# Altium footprint library 存储芯片.PcbLib: 6 footprints
Each footprint in its own frame and in the unit in brackets; x right, y up, seen from the top. Pads: shape width x height; smd on the part's side, far side on the other; paste and mask are expansions set on the pad; w line width, h text height; cw(c..) or ccw(c..) is an arc to the next point about the centre after c.
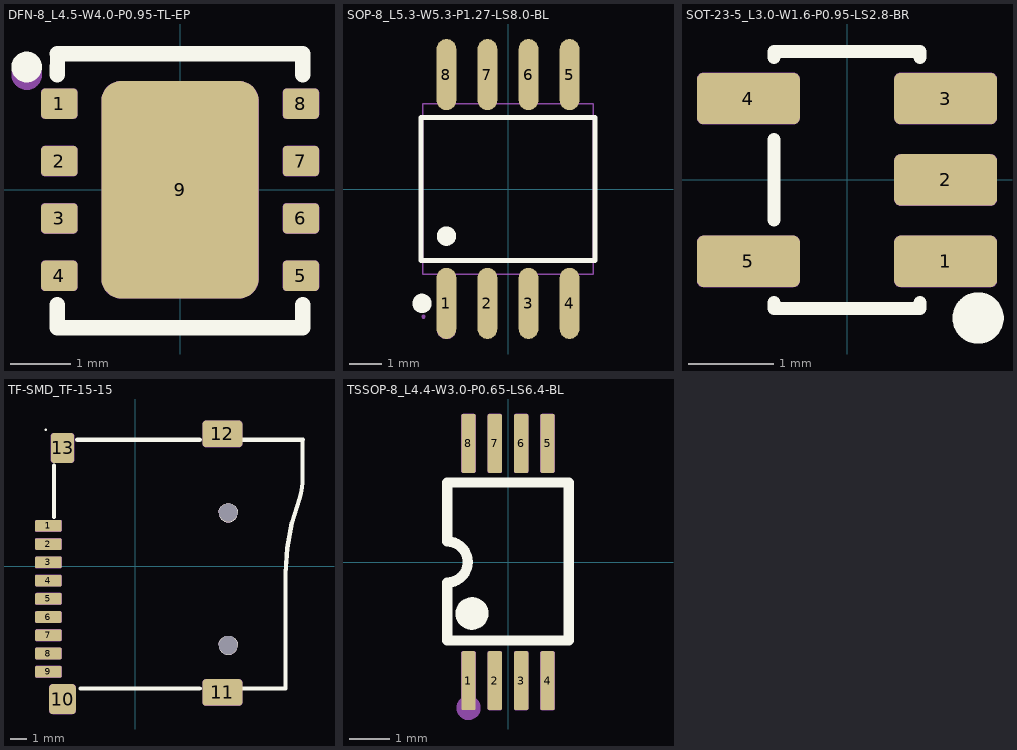
[diagram p0: the footprints below, top view; thin cyan lines are the x and y axes]

## DFN-8_L4.5-W4.0-P0.95-TL-EP [mm] "DFN-8(4.5x4); TDFN-8(4x4.5); WDFN-8-EP; -"
height -909.212
pads (9):
  rrect25% 0.6x0.5 smd mask+0.05: 1(-2,1.425) 2(-2,0.475) 3(-2,-0.475) 4(-2,-1.425) 5(2,-1.425) 6(2,-0.475) 7(2,0.475) 8(2,1.425)
  rrect25% 2.6x3.6 smd mask+0.05: 9(0,0)
Top Overlay:
  circle w0.254: c-2.54,2.032 r0.127
  region: -1.94,2.25 -1.941,2.262 -1.945,2.273 -1.95,2.283 -1.958,2.292 -1.967,2.3 -1.977,2.305 -1.988,2.309 -2,2.31 -2.012,2.309 -2.023,2.305 -2.033,2.3 -2.042,2.292 -2.05,2.283 -2.055,2.273 -2.059,2.262 -2.06,2.25 -2.059,2.238 -2.055,2.227 -2.05,2.217 -2.042,2.208 -2.033,2.2 -2.023,2.195 -2.012,2.191 -2,2.19 -1.988,2.191 -1.977,2.195 -1.967,2.2 -1.958,2.208 -1.95,2.217 -1.945,2.227 -1.941,2.238
  lines w0.254: -2.032,-1.906 -2.032,-2.286 2.032,-2.286 2.032,-1.906 ; -2.032,1.906 -2.03,2.25 ; -2.032,2.249 2.032,2.249 2.032,1.906
Mechanical 2:
  circle w0.254: c-2.54,1.905 r0.127
Mechanical 9:
  drawing of 9 lines, arcs and shapes, not listed
3D body "DFN-8_L4.5-W4.0-P0.95-TL-EP.step": height 1, standoff 0, extent -2,-2.25 2,2.25

## PCBComponent_1 [mm]

## SOP-8_L5.3-W5.3-P1.27-LS8.0-BL [mm]
pads (8):
  oval 0.609x2.204 smd: 1(-1.905,-3.542) 2(-0.635,-3.542) 3(0.635,-3.542) 4(1.905,-3.542) 5(1.905,3.542) 6(0.635,3.542) 7(-0.635,3.542) 8(-1.905,3.542)
Top Overlay:
  circle w0.3: c-2.662,-3.542 r0.15
  circle w0.3: c-1.905,-1.459 r0.15
  lines w0.152: -2.691,-2.211 2.691,-2.211 2.691,2.211 -2.691,2.211 -2.691,-2.211
Mechanical 6:
  circle w0.3: c-1.905,-4.35 r0.15
Mechanical 15:
  region: 1.687,3.31 1.687,2.63 2.123,2.63 2.123,3.31
  region: 1.687,3.95 1.687,3.3 2.123,3.3 2.123,3.95
  region: 0.417,3.31 0.417,2.63 0.853,2.63 0.853,3.31
  region: 0.417,3.95 0.417,3.3 0.853,3.3 0.853,3.95
  region: -0.853,3.31 -0.853,2.63 -0.417,2.63 -0.417,3.31
  region: -0.853,3.95 -0.853,3.3 -0.417,3.3 -0.417,3.95
  region: -2.123,3.31 -2.123,2.63 -1.687,2.63 -1.687,3.31
  region: -2.123,3.95 -2.123,3.3 -1.687,3.3 -1.687,3.95
  region: 1.687,-3.31 1.687,-2.63 2.123,-2.63 2.123,-3.31
  region: 1.687,-3.95 1.687,-3.3 2.123,-3.3 2.123,-3.95
  region: 0.417,-3.31 0.417,-2.63 0.853,-2.63 0.853,-3.31
  region: 0.417,-3.95 0.417,-3.3 0.853,-3.3 0.853,-3.95
  region: -0.853,-3.31 -0.853,-2.63 -0.417,-2.63 -0.417,-3.31
  region: -0.853,-3.95 -0.853,-3.3 -0.417,-3.3 -0.417,-3.95
  region: -2.123,-3.31 -2.123,-2.63 -1.687,-2.63 -1.687,-3.31
  region: -2.123,-3.95 -2.123,-3.3 -1.687,-3.3 -1.687,-3.95
  region: -2.555,-3.95 -2.555,-3.925 -2.59,-3.89 -2.64,-3.89 -2.675,-3.925 -2.675,-3.95 -2.675,-3.975 -2.64,-4.01 -2.59,-4.01 -2.555,-3.975 -2.555,-3.95
  lines w0.051: -2.64,-2.64 2.64,-2.64 2.64,2.64 -2.64,2.64 -2.64,-2.64

## SOT-23-5_L3.0-W1.6-P0.95-LS2.8-BR [mm] "SOT-23-5; SOT-23A-5; -; TSOT-23-5; SC-74A,SOT-753; SC-74A(SOT-753); SOT-25-5; SOT-23-5L; SOT-23-Thin-5; SOT-23-5-THIN; SOT-25; SOT23-5; SOT-23-THIN; SOIC-8; SOT-23-5(MTP5)"
height 5090.776
pads (5):
  rrect25% 1.2x0.6 smd mask+0.05: 1(1.15,-0.95) 2(1.15,0) 3(1.15,0.95) 4(-1.15,0.95) 5(-1.15,-0.95)
Top Overlay:
  circle w0.3: c1.529,-1.611 r0.15
  region: 1.46,-1.45 1.459,-1.438 1.455,-1.427 1.45,-1.417 1.442,-1.408 1.433,-1.4 1.423,-1.395 1.412,-1.391 1.4,-1.39 1.388,-1.391 1.377,-1.395 1.367,-1.4 1.358,-1.408 1.35,-1.417 1.345,-1.427 1.341,-1.438 1.34,-1.45 1.341,-1.462 1.345,-1.473 1.35,-1.483 1.358,-1.492 1.367,-1.5 1.377,-1.505 1.388,-1.509 1.4,-1.51 1.412,-1.509 1.423,-1.505 1.433,-1.5 1.442,-1.492 1.45,-1.483 1.455,-1.473 1.459,-1.462
  lines w0.152: -0.85,-1.43 -0.85,-1.5 0.85,-1.5 0.85,-1.43 ; -0.85,-0.47 -0.85,0.47 ; -0.85,1.43 -0.85,1.5 0.85,1.5 0.85,1.43
Mechanical 2:
  circle w0.3: c1.15,-0.95 r0.15
Mechanical 9:
  drawing of 5 lines, arcs and shapes, not listed
3D body "SOT-23-5_L3.0-W1.6-P0.95-LS2.8-BR.step": height 1.6, standoff 0, extent -0.8,-1.45 0.8,1.45

## TF-SMD_TF-15-15 [mil] "SMD; TFCARD; SIM-SMD"
height -35795.73
pads (15):
  rrect25% 63x27.6 smd mask+1.97: 1(-206.75,96.45) 2(-206.75,53.15) 3(-206.75,9.84) 4(-206.75,-33.47) 5(-206.75,-76.77) 6(-206.75,-120.08) 7(-206.75,-163.39) 8(-206.75,-206.7) 9(-206.75,-250)
  rrect25% 63x70.87 smd mask+1.97: 10(-173.17,-314.96)
  rrect25% 94.49x62.99 smd mask+1.97: 11(206.75,-299.22) 12(206.75,314.96)
  rrect25% 55.1x70.9 smd mask+1.97: 13(-173.15,281.51)
  round 43.31 hole 43.31 unplated: ""(220.53,-187.01) ""(220.53,127.95)
Top Overlay:
  region: -210.28,324.78 -210.32,325.24 -210.46,325.68 -210.68,326.09 -210.97,326.45 -211.33,326.74 -211.74,326.96 -212.18,327.1 -212.64,327.14 -213.1,327.1 -213.54,326.96 -213.95,326.74 -214.31,326.45 -214.6,326.09 -214.82,325.68 -214.96,325.24 -215,324.78 -214.96,324.32 -214.82,323.88 -214.6,323.47 -214.31,323.11 -213.95,322.82 -213.54,322.6 -213.1,322.46 -212.64,322.42 -212.18,322.46 -211.74,322.6 -211.33,322.82 -210.97,323.11 -210.68,323.47 -210.46,323.88 -210.32,324.32
  lines w1.97: 198.88,-187.01 199.29,-182.79 200.52,-178.72 202.53,-174.98 205.22,-171.7 208.5,-169.01 212.24,-167 216.31,-165.77 220.53,-165.36 224.75,-165.77 228.82,-167 232.56,-169.01 235.84,-171.7 238.53,-174.98 240.54,-178.72 241.77,-182.79 242.18,-187.01 241.77,-191.23 240.54,-195.3 238.53,-199.04 235.84,-202.32 232.56,-205.01 228.82,-207.02 224.75,-208.25 220.53,-208.66 216.31,-208.25 212.24,-207.02 208.5,-205.01 205.22,-202.32 202.53,-199.04 200.52,-195.3 199.29,-191.23 198.88,-187.01 ; 198.88,127.95 199.29,132.17 200.52,136.24 202.53,139.98 205.22,143.26 208.5,145.95 212.24,147.96 216.31,149.19 220.53,149.6 224.75,149.19 228.82,147.96 232.56,145.95 235.84,143.26 238.53,139.98 240.54,136.24 241.77,132.17 242.18,127.95 241.77,123.73 240.54,119.66 238.53,115.92 235.84,112.64 232.56,109.95 228.82,107.94 224.75,106.71 220.53,106.3 216.31,106.71 212.24,107.94 208.5,109.95 205.22,112.64 202.53,115.92 200.52,119.66 199.29,123.73 198.88,127.95
  lines w10: -193.15,117.87 -193.15,239.87 ; -138.15,300.87 152.85,300.87 ; -130.15,-290.13 152.85,-290.13 ; 255.85,-290.13 356.85,-290.13 356.85,-17.13 ; 255.85,300.87 397.85,300.87 ; 356.85,-16.66 360.52,43.85 371.49,103.48 389.6,161.34 393.61,174.13 396.03,187.32 396.85,200.7 ; 396.85,200.87 396.85,299.87
Mechanical 1:
  lines w1.97: 198.88,-187.01 199.29,-182.79 200.52,-178.72 202.53,-174.98 205.22,-171.7 208.5,-169.01 212.24,-167 216.31,-165.77 220.53,-165.36 224.75,-165.77 228.82,-167 232.56,-169.01 235.84,-171.7 238.53,-174.98 240.54,-178.72 241.77,-182.79 242.18,-187.01 241.77,-191.23 240.54,-195.3 238.53,-199.04 235.84,-202.32 232.56,-205.01 228.82,-207.02 224.75,-208.25 220.53,-208.66 216.31,-208.25 212.24,-207.02 208.5,-205.01 205.22,-202.32 202.53,-199.04 200.52,-195.3 199.29,-191.23 198.88,-187.01 ; 198.88,127.95 199.29,132.17 200.52,136.24 202.53,139.98 205.22,143.26 208.5,145.95 212.24,147.96 216.31,149.19 220.53,149.6 224.75,149.19 228.82,147.96 232.56,145.95 235.84,143.26 238.53,139.98 240.54,136.24 241.77,132.17 242.18,127.95 241.77,123.73 240.54,119.66 238.53,115.92 235.84,112.64 232.56,109.95 228.82,107.94 224.75,106.71 220.53,106.3 216.31,106.71 212.24,107.94 208.5,109.95 205.22,112.64 202.53,115.92 200.52,119.66 199.29,123.73 198.88,127.95
Mechanical 2:
  circle w17.72: c220.53,127.95 r8.86
  circle w17.72: c220.53,-187.01 r8.86
Mechanical 9:
  drawing of 13 lines, arcs and shapes, not listed
3D body "TF-SMD_TF-15-15.step": height 39.37, standoff 0, extent -190.98,-279.51 379.88,301.19

## TSSOP-8_L4.4-W3.0-P0.65-LS6.4-BL [mm] "-; TSSOP-8; TSSOP-8-3.0mm; SSOP-8-4.4mm; TSSOP-8-4.4mm; TSSOP-8-3.5mm; TSSOP-8-3mm; SOT-23-5; SC-70-5; SSOP-8-B; TSSOP-8(3x4.4x0.65); VSSOP-8-3mm; TSSOP-8L; DIP-8; SMD; TSSOP; TSSOP-8(3x4.4x0.65mm); TSSOP-8_3x4.4x065P; SSOP-8_L4.4-W3.0-P0.65-LS6.4; TSSOP(PW); TSSOP-8_L4.4-W3.0-P0.65-LS6.4-BL; TSSOP-8_L4.4-W3.0-P0.65-LS6.4; SSOP-8; TSSOP8; TSSOP8L; TSSop-8; TSSOP-8-BJ; TSSOP-8-B; PSOP-8; TSSOP-14; TSSOP-8_4.4x3mm_P0.65mm; TSSOP8_-173mil; SOP-8; MSOP-8; SOIC-8"
height 5090.776
pads (8):
  rrect25% 0.353x1.454 smd mask+0.05: 1(-0.975,-2.927) 2(-0.325,-2.927) 3(0.325,-2.927) 4(0.975,-2.927) 5(0.975,2.927) 6(0.325,2.927) 7(-0.325,2.927) 8(-0.975,2.927)
Top Overlay:
  region: -0.829,-1.27 -0.83,-1.258 -0.834,-1.247 -0.839,-1.237 -0.847,-1.228 -0.856,-1.22 -0.866,-1.215 -0.877,-1.211 -0.889,-1.21 -0.901,-1.211 -0.912,-1.215 -0.922,-1.22 -0.931,-1.228 -0.939,-1.237 -0.944,-1.247 -0.948,-1.258 -0.949,-1.27 -0.948,-1.282 -0.944,-1.293 -0.939,-1.303 -0.931,-1.312 -0.922,-1.32 -0.912,-1.325 -0.901,-1.329 -0.889,-1.33 -0.877,-1.329 -0.866,-1.325 -0.856,-1.32 -0.847,-1.312 -0.839,-1.303 -0.834,-1.293 -0.83,-1.282
  region: -1.293,-1.27 -1.287,-1.203 -1.27,-1.138 -1.242,-1.077 -1.205,-1.021 -1.159,-0.973 -1.106,-0.932 -1.046,-0.901 -0.982,-0.88 -0.916,-0.87 -0.849,-0.871 -0.783,-0.883 -0.72,-0.906 -0.662,-0.939 -0.61,-0.981 -0.565,-1.032 -0.53,-1.089 -0.504,-1.151 -0.489,-1.216 -0.485,-1.27 -0.491,-1.337 -0.508,-1.402 -0.536,-1.463 -0.573,-1.519 -0.619,-1.567 -0.672,-1.608 -0.732,-1.639 -0.796,-1.66 -0.862,-1.67 -0.929,-1.669 -0.995,-1.657 -1.058,-1.634 -1.116,-1.601 -1.168,-1.559 -1.213,-1.508 -1.248,-1.451 -1.274,-1.389 -1.289,-1.324
  lines w0.254: -1.501,1.966 -1.501,0.508 -1.413,0.5 -1.327,0.478 -1.247,0.44 -1.174,0.39 -1.112,0.327 -1.061,0.254 -1.023,0.174 -1,0.089 -0.993,0.001 -1,-0.088 -1.023,-0.173 -1.06,-0.254 -1.111,-0.326 -1.174,-0.389 -1.246,-0.44 -1.326,-0.477 -1.412,-0.5 -1.5,-0.508 -1.5,-1.938 1.5,-1.938 1.5,1.966 -1.5,1.966
Mechanical 2:
  circle w0.3: c-0.975,-3.6 r0.15
Mechanical 9:
  drawing of 8 lines, arcs and shapes, not listed
3D body "TSSOP-8_L4.4-W3.0-P0.65-LS6.4-BL-2.step": height 1.6, standoff 0, extent -1.5,-2.2 1.5,2.2